# Altium schematic symbol library SCH - PASSIVES - RESISTOR - TC42X-2-105E.SCHLIB: 1 symbol
Pins are listed as number, name and electrical type; pins without a type are passive.

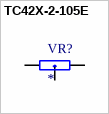
[diagram p0: symbol TC42X-2-105E]

## TC42X-2-105E
designator VR?
Variable Resistor; Manufacturer_Name: Bourns; Manufacturer_Part_Number: TC42X-2-105E; Datasheet Link: http://www.bourns.com/docs/Product-Datasheets/TC42.pdf; Height: 0.9mm; Mouser Part Number: 652-TC42X-2-105E; Mouser Price/Stock: https://www.mouser.co.uk/ProductDetail/Bourns/TC42X-2-105E?qs=QYa8ZXxbnEaWmdvWBR3WCA%3D%3D; Arrow Part Number: TC42X-2-105E; Arrow Price/Stock: https://www.arrow.com/en/products/tc42x-2-105e/bourns?region=nac
pins: 1 CCW, 2 WIPER_, 3 CW